# Altium footprint library n21-p2.PcbLib: 42 footprints (part 3 of 3)
Each footprint in its own frame and in the unit in brackets; x right, y up, seen from the top. Pads: shape width x height; smd on the part's side, far side on the other; paste and mask are expansions set on the pad; w line width, h text height; cw(c..) or ccw(c..) is an arc to the next point about the centre after c.
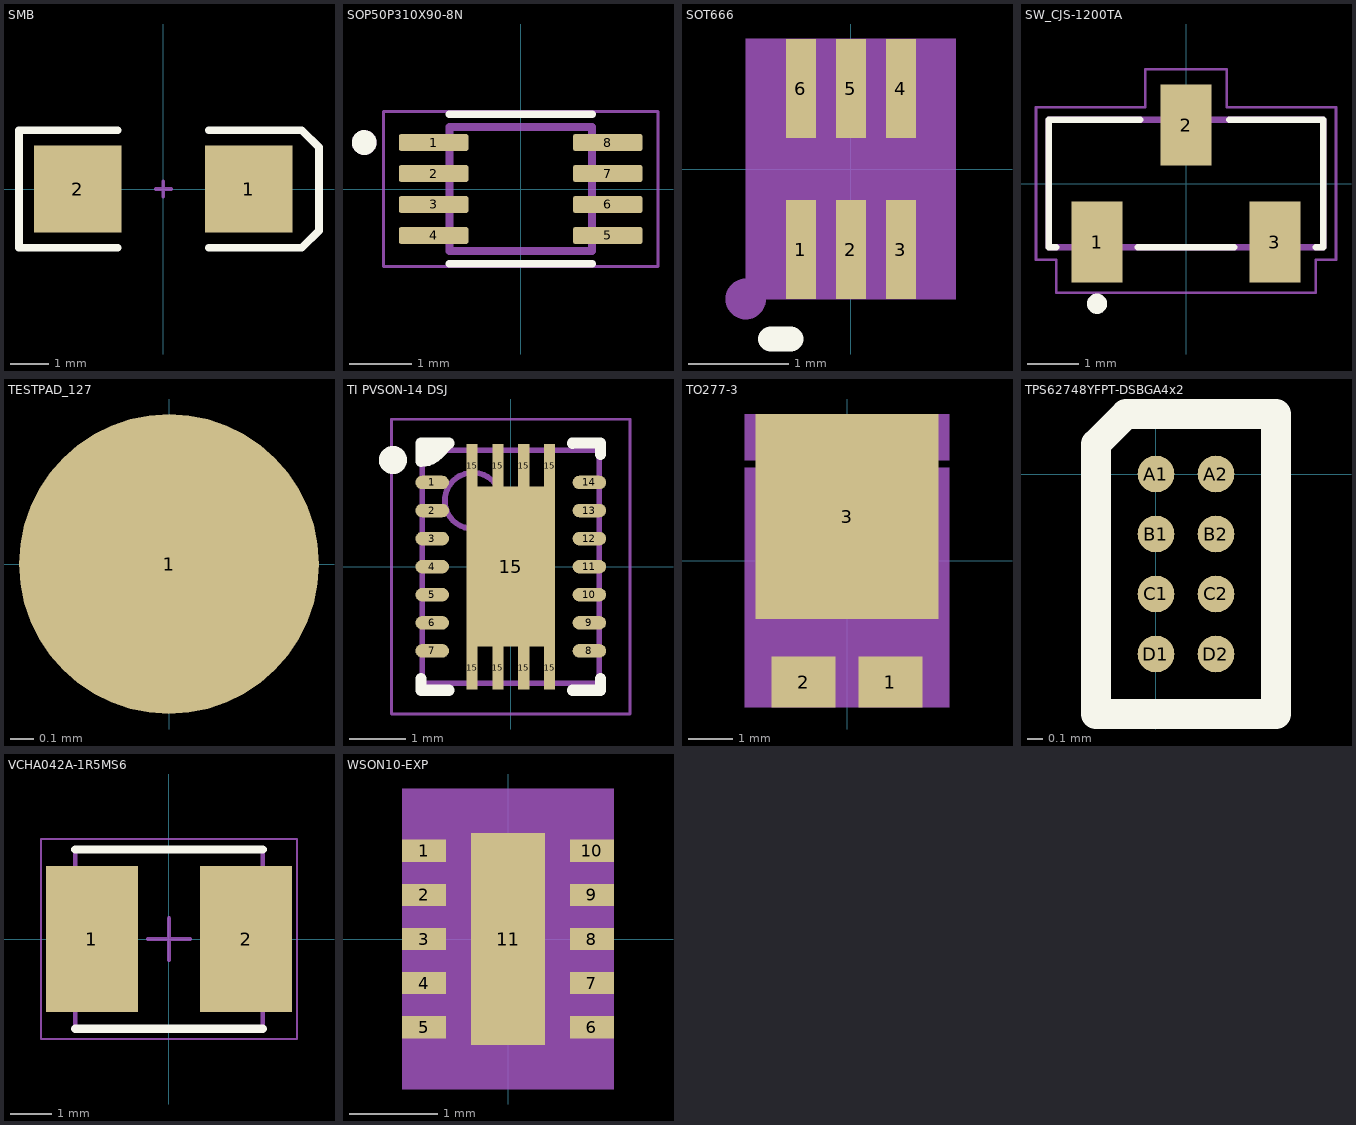
[diagram p2: the footprints below, top view; thin cyan lines are the x and y axes]

## SMB [mm] "DO-214-AA/SMB; 2 C-Bend Leads; Body 5.3 x 3.6 mm, inc. leads (LxW)"
height 2.54
pads (2):
  rect 2.3x2.3 smd: 1(2.25,0) 2(-2.25,0)
Top Overlay:
  lines w0.2: -1.2,-1.55 -3.8,-1.55 -3.8,1.55 -1.2,1.55 ; 1.2,-1.55 3.65,-1.55 4.1,-1.1 4.1,1.1 3.65,1.55 1.2,1.55
Mechanical 1:
  lines w0.1: -0.2,0 0.2,0 ; 0,-0.2 0,0.2
3D body "SMB_STM.step": height 2.64, standoff 0, extent -2.794,-1.981 2.794,1.981

## SOP50P310X90-8N [mm]
pads (8):
  rrect25% 1.12x0.27 smd: 1(-1.405,0.75) 2(-1.405,0.25) 3(-1.405,-0.25) 4(-1.405,-0.75) 5(1.405,-0.75) 6(1.405,-0.25) 7(1.405,0.25) 8(1.405,0.75)
Top Overlay:
  circle w0.2: c-2.525,0.75 r0.1
  lines w0.127: -1.15,-1.205 1.15,-1.205 ; -1.15,1.205 1.15,1.205
Mechanical 13:
  circle w0.2: c-2.525,0.75 r0.1
  lines w0.127: -1.15,-1 -1.15,1 1.15,1 1.15,-1 -1.15,-1
Mechanical 15:
  lines w0.05: -2.215,-1.25 -2.215,1.25 2.215,1.25 2.215,-1.25 -2.215,-1.25
3D body "step_temp.STEP": height 0.9, standoff 0, extent -1.55,-1 1.55,1

## SOT666 [mm]
pads (6):
  rect 0.3x0.99 smd: 1(-0.5,-0.805) 2(0,-0.805) 3(0.5,-0.805) 4(0.5,0.805) 5(0,0.805) 6(-0.5,0.805)
Top Overlay:
  lines w0.254: -0.8,-1.7 -0.6,-1.7
Top 3D Body:
  region: -1.05,1.3 -1.05,-1.3 1.05,-1.3 1.05,1.3
Mechanical 17:
  text "3" at 0.6,-0.865 h0.2
  text "1" at -0.4,-0.865 h0.2
  text "2" at 0.1,-0.865 h0.2
  text "4" at 0.6,0.745 h0.2
  text "5" at 0.1,0.745 h0.2
  text "6" at -0.4,0.745 h0.2
Mechanical 18:
  dashed: -1.05,-0.85 -1.05,0.85 -0.65,0.85 -0.65,0.65 -0.85,0.65 -0.85,-0.65 -0.65,-0.65 -0.65,-0.85
  dashed: 0.65,-0.85 0.65,-0.65 0.85,-0.65 0.85,0.65 0.65,0.65 0.65,0.85 1.05,0.85 1.05,-0.85
  dashed: -0.57,-0.156 -0.648,-0.172 -0.714,-0.216 -0.758,-0.282 -0.774,-0.36 -0.758,-0.438 -0.744,-0.46 -0.714,-0.504 -0.648,-0.548 -0.57,-0.564 -0.492,-0.548 -0.426,-0.504 -0.396,-0.46 -0.382,-0.438 -0.366,-0.36 -0.382,-0.282 -0.426,-0.216 -0.492,-0.172
Mechanical 255:
  circle w0.254: c-1.05,-1.3 r0.076
  region: -1.05,-0.85 -1.05,0.85 -0.75,0.85 -0.75,0.65 -0.85,0.65 -0.85,-0.65 -0.75,-0.65 -0.75,-0.85
  region: 0.75,-0.85 0.75,-0.65 0.85,-0.65 0.85,0.65 0.75,0.65 0.75,0.85 1.05,0.85 1.05,-0.85
3D body "SOT666.stp": height 0.6, standoff 0, extent -0.794,-0.8 0.797,0.8

## SW_CJS-1200TA [mm]
pads (3):
  rect 1x1.6 smd: 1(-1.75,-1.15) 2(0,1.15) 3(1.75,-1.15)
Top Overlay:
  circle w0.2: c-1.75,-2.365 r0.1
  lines w0.127: -2.55,-1.25 -2.7,-1.25 -2.7,1.25 -0.9,1.25 ; -0.95,-1.25 0.95,-1.25 ; 0.85,1.25 2.7,1.25 2.7,-1.25 2.55,-1.25
Mechanical 13:
  lines w0.127: -2.7,-1.25 -2.7,1.25 2.7,1.25 2.7,-1.25 -2.7,-1.25
Mechanical 15:
  lines w0.05: -2.95,-1.5 -2.95,1.5 -0.8,1.5 -0.8,2.25 0.8,2.25 0.8,1.5 2.95,1.5 2.95,-1.5 2.55,-1.5 2.55,-2.15 -2.55,-2.15 -2.55,-1.5 -2.95,-1.5
3D body "step_temp.STEP": height 2.5, standoff 0, extent -2.7,-1.4 2.7,1.4

## TESTPAD_127 [mm]
pads (1):
  round 1.27 smd: 1(0,0)

## TI PVSON-14 DSJ [mm] "VSON, 14-Leads, Body 3.00x4.00mm, Pitch 0.50mm, Thermal Pad 1.58x2.85mm, IPC Medium Density"
height 1
pads (23):
  oval 0.6x0.24 smd: 1(-1.4,1.5) 2(-1.4,1) 3(-1.4,0.5) 4(-1.4,0) 5(-1.4,-0.5) 6(-1.4,-1) 7(-1.4,-1.5) 8(1.4,-1.5) 9(1.4,-1) 10(1.4,-0.5) 11(1.4,0) 12(1.4,0.5) 13(1.4,1) 14(1.4,1.5)
  rect 0.2x0.775 smd: 15(-0.69,-1.8) 15(-0.69,1.8) 15(-0.23,-1.8) 15(-0.23,1.8) 15(0.23,-1.8) 15(0.23,1.8) 15(0.69,-1.8) 15(0.69,1.8)
  rect 1.58x2.85 smd: 15(0,0)
Top Overlay:
  circle w0.25: c-2.1,1.9 r0.125
  region: -1.6,2.2 -1.1,2.2 -1.425,1.875 -1.6,1.875
  lines w0.2: -1.6,-1.995 -1.6,-2.2 -1.1,-2.2 ; 1.1,-2.2 1.6,-2.2 1.6,-1.995 ; 1.1,2.2 cw(c1.112,2.188) 1.112,2.205 1.6,2.205 1.6,2 ; -1.6,1.875 ccw(c-1.6,2.297) -1.301,1.999 -1.1,2.2 -1.6,2.2 -1.6,1.875
Mechanical 13:
  circle w0.1: c-0.675,1.175 r0.5
  lines w0.1: -1.575,-2.075 1.575,-2.075 1.575,2.075 -1.575,2.075 -1.575,-2.075
Mechanical 15:
  lines w0.05: -2.125,-2.625 2.125,-2.625 2.125,2.625 -2.125,2.625 -2.125,-2.625
  lines w0.1: -0.5,0 0.5,0 ; 0,-0.5 0,0.5
3D body: height 1, standoff 0.08, extent -1.575,-2.075 1.575,2.075

## TO277-3 [mm]
pads (3):
  rect 1.45x1.15 smd: 1(0.985,-2.75) 2(-0.985,-2.75)
  rect 4.15x4.65 smd: 3(0,1)
Top Paste:
  dashed: -0.275,-1.325 -0.275,0.675 -2.075,0.675 -2.075,-1.325
  dashed: -0.275,1.325 -0.275,3.325 -2.075,3.325 -2.075,1.325
  dashed: 2.075,-1.325 2.075,0.675 0.275,0.675 0.275,-1.325
  dashed: 2.075,1.325 2.075,3.325 0.275,3.325 0.275,1.325
Mechanical 19:
  text "2" at -0.985,-2.67 h0.2
  text "1" at 0.985,-2.67 h0.2
  text "3" at 0,1.08 h0.2
Top Assembly:
  pour cut-out: -2.315,-3.325 -2.315,2.107 2.315,2.107 2.315,-3.325
  pour cut-out: -2.315,2.281 -2.315,3.325 2.315,3.325 2.315,2.281
3D body "TO277-3.stp": height 1.2, standoff 0, extent -2.315,-3.325 2.315,3.325

## TPS62748YFPT-DSBGA4x2 [mm]
pads (8):
  round 0.245 smd: A1(0,0) A2(0.4,0) B1(0,-0.4) B2(0.4,-0.4) C1(0,-0.8) C2(0.4,-0.8) D1(0,-1.2) D2(0.4,-1.2)
Top Overlay:
  lines w0.2: -0.4,-1.6 0.8,-1.6 0.8,0.4 -0.2,0.4 -0.4,0.2 -0.4,-1.6
3D body: height 0.69, standoff 0, extent -0.3,-1.5 0.7,0.3

## VCHA042A-1R5MS6 [mm] "1.5uH Precision Wire Wound Inductor, 2-Leads, Body 4.20x4.00mm, IPC Medium Density"
height 2.1
pads (2):
  rect 2.2x3.5 smd: 1(-1.85,0) 2(1.85,0)
Top Overlay:
  lines w0.2: -2.25,-2.15 2.25,-2.15 ; -2.25,2.15 2.25,2.15
Mechanical 15:
  lines w0.05: -3.075,-2.4 3.075,-2.4 3.075,2.4 -3.075,2.4 -3.075,-2.4
  lines w0.1: -0.5,0 0.5,0 ; 0,-0.5 0,0.5
Top Assembly:
  lines w0.1: -2.25,-2.15 2.25,-2.15 2.25,2.15 -2.25,2.15 -2.25,-2.15
3D body "VCHA042A-1R5MS6.step": height 2.2, standoff 0, extent -2.2,-2 2.2,2

## WSON10-EXP [mm]
pads (11):
  rect 0.5x0.25 smd: 1(-0.95,1) 2(-0.95,0.5) 3(-0.95,0) 4(-0.95,-0.5) 5(-0.95,-1) 6(0.95,-1) 7(0.95,-0.5) 8(0.95,0) 9(0.95,0.5) 10(0.95,1)
  rect 0.84x2.4 smd: 11(0,0)
Top Paste:
  dashed: -0.12,0.2 -0.12,1.2 -0.42,1.2 -0.42,0.2
  dashed: 0.42,0.2 0.42,1.2 0.12,1.2 0.12,0.2
  dashed: -0.12,-1.2 -0.12,-0.2 -0.42,-0.2 -0.42,-1.2
  dashed: 0.42,-1.2 0.42,-0.2 0.12,-0.2 0.12,-1.2
Top 3D Body:
  region: -1.2,1.7 -1.2,-1.7 1.2,-1.7 1.2,1.7
Mechanical 26:
  text "8" at 0.95,0.08 h0.2
  text "5" at -0.95,-0.92 h0.2
  text "4" at -0.95,-0.42 h0.2
  text "6" at 0.95,-0.92 h0.2
  text "7" at 0.95,-0.42 h0.2
  text "2" at -0.95,0.58 h0.2
  text "1" at -0.95,1.08 h0.2
  text "3" at -0.95,0.08 h0.2
  text "11" at 0,0.16 h0.2
  text "10" at 0.95,1.16 h0.2
  text "9" at 0.95,0.58 h0.2
Top Assembly:
  dashed: -1.2,-1.7 -1.2,1.7 1.2,1.7 1.2,-1.7
  pour cut-out: 1,-1.5 -1,-1.5 -1,1.5 1,1.5
  dashed: -0.69,0.808 -0.611,0.824 -0.545,0.868 -0.501,0.934 -0.486,1.012 -0.501,1.09 -0.516,1.112 -0.545,1.156 -0.611,1.201 -0.69,1.216 -0.768,1.201 -0.834,1.156 -0.863,1.112 -0.878,1.09 -0.893,1.012 -0.878,0.934 -0.834,0.868 -0.768,0.824
3D body "WSON10-EXP.stp": height 0.8, standoff 0, extent -1,-1.5 1,1.5